# Altium schematic symbol library STM32F334K8U6.SchLib: 1 symbol
Pins are listed as number, name and electrical type; pins without a type are passive.

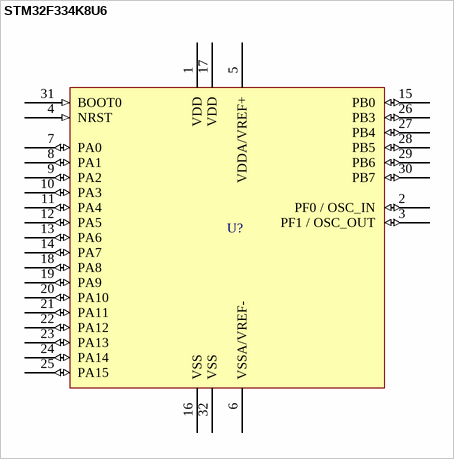
[diagram p0: symbol STM32F334K8U6]

## STM32F334K8U6
designator U?  (value not drawn)
Mainstream Mixed signals MCUs Arm Cortex-M4 core with DSP and FPU, 64 Kbytes of Flash memory, 72 MHz CPU, CCM, 12-bit ADC 5 MSPS, comparators, op-amp, hr timer
pins: 1 VDD (power), 2 PF0 / OSC_IN (io), 3 PF1 / OSC_OUT (io), 4 NRST (in), 5 VDDA/VREF+ (power), 6 VSSA/VREF- (power), 7 PA0 (io), 8 PA1 (io), 9 PA2 (io), 10 PA3 (io), 11 PA4 (io), 12 PA5 (io), 13 PA6 (io), 14 PA7 (io), 15 PB0 (io), 16 VSS (power), 17 VDD (power), 18 PA8 (io), 19 PA9 (io), 20 PA10 (io), 21 PA11 (io), 22 PA12 (io), 23 PA13 (io), 24 PA14 (io), 25 PA15 (io), 26 PB3 (io), 27 PB4 (io), 28 PB5 (io), 29 PB6 (io), 30 PB7 (io), 31 BOOT0 (in), 32 VSS (power)